# Altium schematic symbol library RT6206BHGSP.SchLib: 1 symbol
Pins are listed as number, name and electrical type; pins without a type are passive.

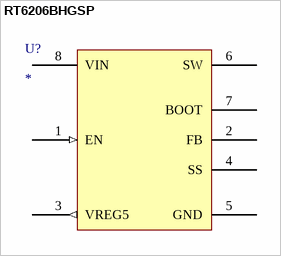
[diagram p0: symbol RT6206BHGSP]

## RT6206BHGSP
designator U?
Manufacturer: Richtek; Manufacturer Part Number: RT6206BHGSP; Min Input Voltage: 4.5V; Max Input Voltage: 18V; Output Current: 5.5A; Number of Outputs: 1; Min Output Voltage: 765mV; Max Output Voltage: 8V; Switching Frequency: 650kHz; Synchronous Rectifier: Yes; Output Type: Adjustable; Output Configuration: Positive; Stock 1: 2322; Pricing 1: 1 = 2.80000, 10 = 2.52800, 25 = 2.25760, 100 = 2.03180, 250 = 1.80600, 500 = 1.58026, 1000 = 1.30935 (USD); RoHS: Yes; Mount: Surface Mount; Case/Package: SOP; Number of Pins: 8; Min Operating Temperature: -40°C; Max Operating Temperature: 85°C; Packaging: Cut Tape; Output Voltage: 8V; REACH SVHC: Unknown; ComponentLink1URL: https://www.richtek.com/assets/product_file/RT6206B/DS6206B-01.pdf; ComponentLink1Description: https://www.richtek.com/assets/product_file/RT6206B/DS6206B-01.pdf; ComponentLink2URL: http://www.farnell.com/datasheets/1836753.pdf?src-supplier=Element14; ComponentLink2Description: http://www.farnell.com/datasheets/1836753.pdf?src-supplier=Element14; Supplier 1: Digi-Key; Supplier Part Number 1: RT6206BHGSPCT-ND
pins: 1 EN (in), 2 FB, 3 VREG5 (out), 4 SS, 5 GND (power), 6 SW (power), 7 BOOT, 8 VIN (power), 9 GND (power) hidden